# EAGLE library part 8X2 (library pixel)
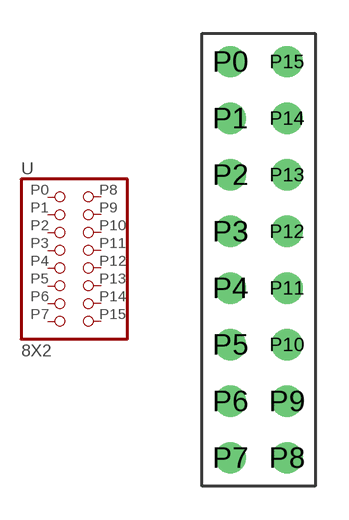
[diagram p34: symbol with the pads of 8X2; footprint 8X2]

Designator prefix -

## 8X2  [8X2]
P0  P0  pas
P1  P1  pas
P2  P2  pas
P3  P3  pas
P4  P4  pas
P5  P5  pas
P6  P6  pas
P7  P7  pas
P8  P8  pas
P9  P9  pas
P10  P10  pas
P11  P11  pas
P12  P12  pas
P13  P13  pas
P14  P14  pas
P15  P15  pas

## Footprint 8X2 (pad centres in mm)
drill 0.9 pad 1.27: P0 -1.27,8.89; P1 -1.27,6.35; P2 -1.27,3.81; P3 -1.27,1.27; P4 -1.27,-1.27; P5 -1.27,-3.81; P6 -1.27,-6.35; P7 -1.27,-8.89; P8 1.27,-8.89; P9 1.27,-6.35; P10 1.27,-3.81; P11 1.27,-1.27; P12 1.27,1.27; P13 1.27,3.81; P14 1.27,6.35; P15 1.27,8.89